# Altium footprint library CompPas.PcbLib: 15 footprints
Each footprint in its own frame and in the unit in brackets; x right, y up, seen from the top. Pads: shape width x height; smd on the part's side, far side on the other; paste and mask are expansions set on the pad; w line width, h text height; cw(c..) or ccw(c..) is an arc to the next point about the centre after c.
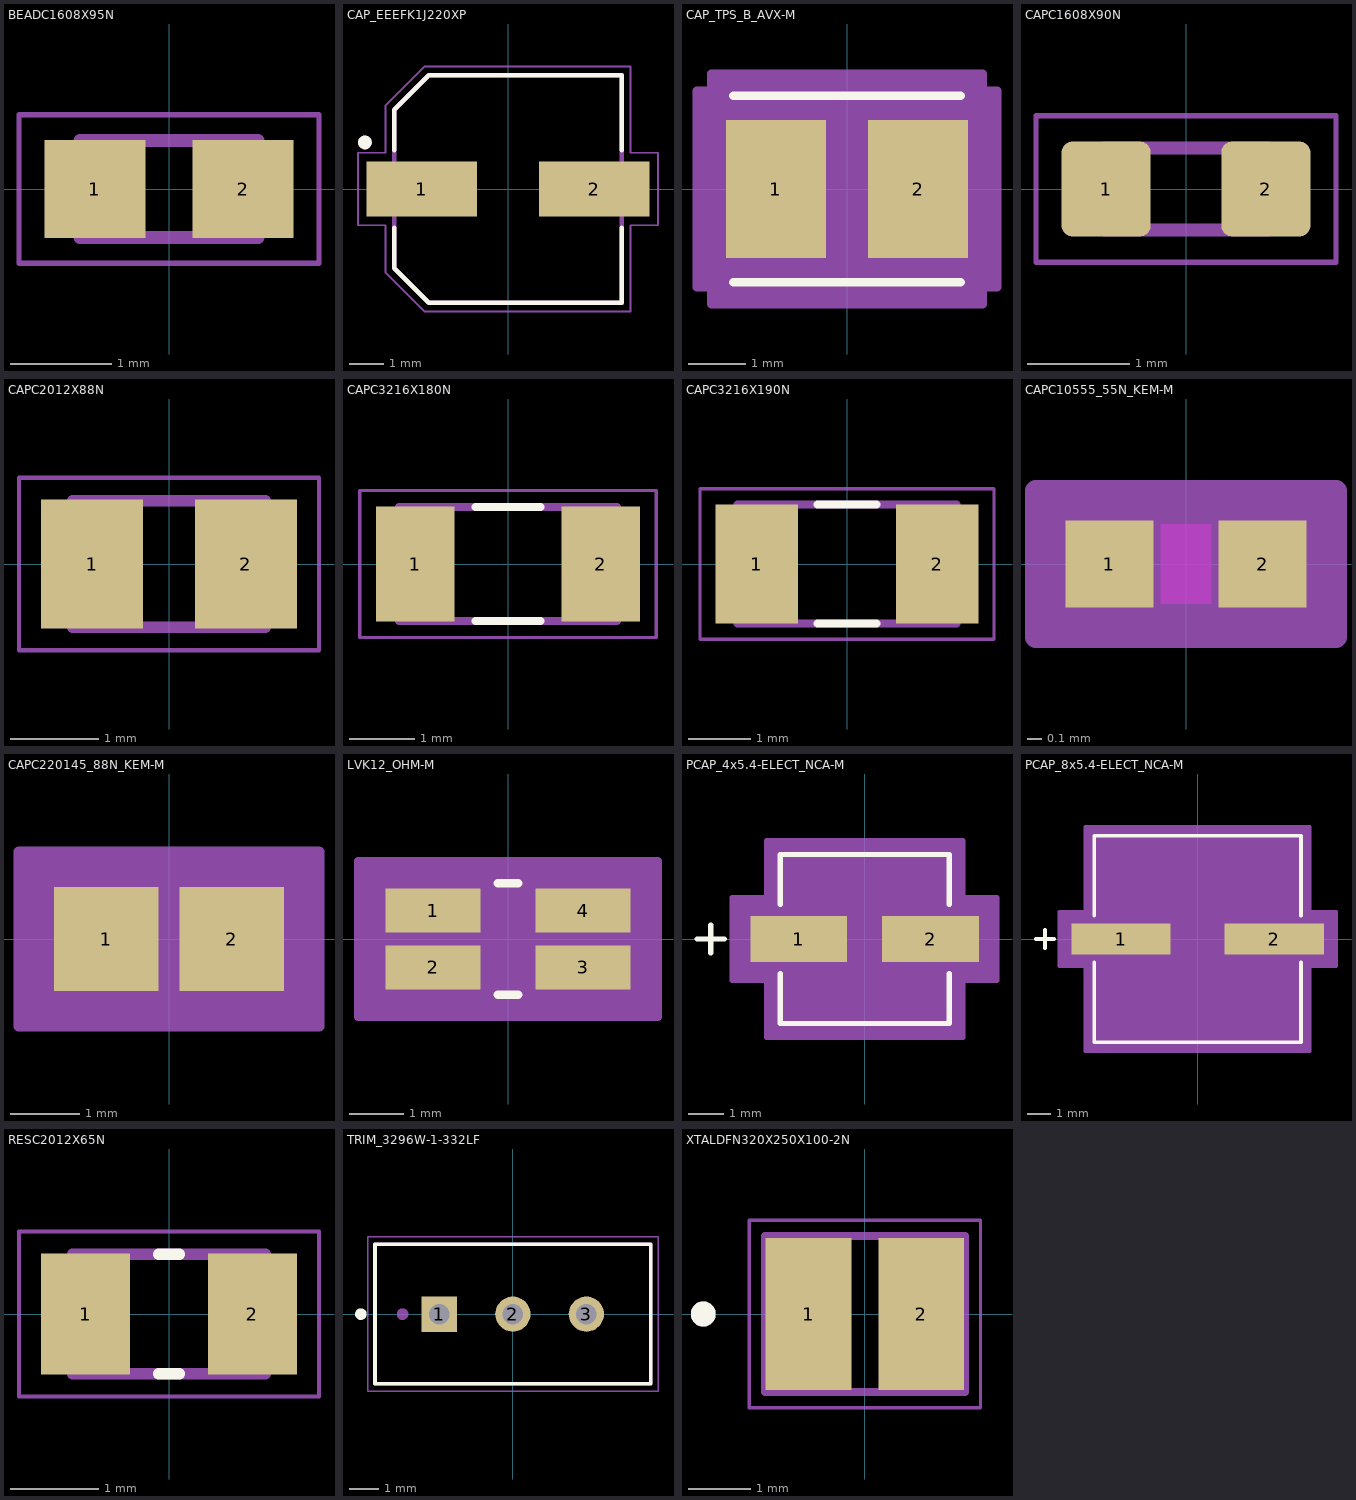
[diagram p0: the footprints below, top view; thin cyan lines are the x and y axes]

## BEADC1608X95N [mm]
pads (2):
  rect 1x0.97 smd: 1(-0.735,0) 2(0.735,0)
Mechanical 13:
  lines w0.127: -0.88,-0.48 -0.88,0.48 0.88,0.48 0.88,-0.48 -0.88,-0.48
Mechanical 15:
  lines w0.05: -1.485,-0.735 -1.485,0.735 1.485,0.735 1.485,-0.735 -1.485,-0.735
3D body "step_temp.STEP": height 0.95, standoff 0, extent -0.8,-0.4 0.8,0.4

## CAP_EEEFK1J220XP [mm]
height 7.7
pads (2):
  rect 3.2x1.6 smd: 1(-2.5,0) 2(2.5,0)
Top Overlay:
  circle w0.2: c-4.15,1.35 r0.1
  lines w0.127: -3.3,-1.12 -3.3,-2.3 -2.3,-3.3 3.3,-3.3 3.3,-1.12 ; -3.3,1.12 -3.3,2.3 -2.3,3.3 3.3,3.3 3.3,1.12
Mechanical 13:
  circle w0.2: c-4.15,1.35 r0.1
  lines w0.127: -3.3,-2.3 -2.3,-3.3 3.3,-3.3 3.3,3.3 -2.3,3.3 -3.3,2.3 -3.3,-2.3
Mechanical 15:
  lines w0.05: -4.35,-1.05 -4.35,1.05 -3.55,1.05 -3.55,2.425 -2.425,3.55 3.55,3.55 3.55,1.05 4.35,1.05 4.35,-1.05 3.55,-1.05 3.55,-3.55 -2.425,-3.55 -3.55,-2.425 -3.55,-1.05 -4.35,-1.05
3D body "step_temp.STEP": height 7.7, standoff 0, extent -3.65,-3.3 3.65,3.3

## CAP_TPS_B_AVX-M [mil]
pads (2):
  rect 68.44x95 smd paste+0 mask+0: 1(-48.78,0) 2(48.78,0)
Top Overlay:
  lines w6: -78,-64 78,-64 ; -78,64 78,64
Mechanical 13:
  lines w1: -73,-59 73,-59 73,59 -73,59 -73,-59
Mechanical 15:
  region: -93,-67.5 -103,-67.5 -103,67.5 -93,67.5 -93,79 93,79 93,67.5 103,67.5 103,-67.5 93,-67.5 93,-79 -93,-79
  lines w6: -103,-67.5 -103,67.5 -93,67.5 -93,79 93,79 93,67.5 103,67.5 103,-67.5 93,-67.5 93,-79 -93,-79 -93,-67.5 -103,-67.5
3D body "CAP_TPS_B_AVX.step": height 82.99, standoff 0, extent -72.99,-59.02 72.99,59.02

## CAPC1608X90N [mm]
pads (2):
  rrect25% 0.87x0.93 smd paste+0 mask+0.102: 1(-0.78,0) 2(0.78,0)
Mechanical 13:
  lines w0.127: -0.8,-0.4 -0.8,0.4 0.8,0.4 0.8,-0.4 -0.8,-0.4
Mechanical 15:
  lines w0.05: -1.465,-0.715 -1.465,0.715 1.465,0.715 1.465,-0.715 -1.465,-0.715
3D body "CL10C180JC8NNNC.STEP": height 0.78, standoff -0.02, extent -0.8,-0.425 0.8,0.475

## CAPC2012X88N [mm]
pads (2):
  rect 1.16x1.47 smd: 1(-0.875,0) 2(0.875,0)
Mechanical 13:
  lines w0.127: -1.1,-0.72 1.1,-0.72 1.1,0.72 -1.1,0.72 -1.1,-0.72
Mechanical 15:
  lines w0.05: -1.708,-0.983 1.708,-0.983 1.708,0.983 -1.708,0.983 -1.708,-0.983
3D body "step_temp.STEP": height 0.88, standoff 0, extent -1,-0.625 1,0.625

## CAPC3216X180N [mm]
pads (2):
  rect 1.21x1.77 smd paste+0 mask+0.102: 1(-1.428,0) 2(1.428,0)
Top Overlay:
  lines w0.127: -0.5,-0.88 0.5,-0.88 ; -0.5,0.88 0.5,0.88
Mechanical 13:
  lines w0.127: -1.68,-0.88 1.68,-0.88 1.68,0.88 -1.68,0.88 -1.68,-0.88
Mechanical 15:
  lines w0.05: -2.285,-1.135 2.285,-1.135 2.285,1.135 -2.285,1.135 -2.285,-1.135
3D body "step_temp.STEP": height 1.25, standoff 0, extent -1.6,-0.8 1.6,0.8

## CAPC3216X190N [mm]
pads (2):
  rect 1.32x1.91 smd: 1(-1.446,0) 2(1.446,0)
Top Overlay:
  lines w0.127: -0.47,-0.95 0.47,-0.95 ; -0.47,0.95 0.47,0.95
Mechanical 13:
  lines w0.127: -1.75,-0.95 1.75,-0.95 1.75,0.95 -1.75,0.95 -1.75,-0.95
Mechanical 15:
  lines w0.05: -2.355,-1.205 2.355,-1.205 2.355,1.205 -2.355,1.205 -2.355,-1.205
3D body "step_temp.STEP": height 1.9, standoff 0, extent -1.6,-0.8 1.6,0.8

## CAPC10555_55N_KEM-M [mil]
pads (2):
  rect 23.81x23.65 smd paste+0 mask+0: 1(-20.76,0) 2(20.76,0)
Top Layer keep-out:
  region: -6.86,-8.83 -6.86,8.83 6.86,8.83 6.86,-8.83
Keep-Out Layer:
  region: -6.86,-10.83 -6.86,10.83 6.86,10.83 6.86,-10.83
Mechanical 13:
  lines w1: -20.67,-10.83 -20.67,10.83 ; -20.67,-10.83 20.67,-10.83 ; -20.67,-10.83 -10.83,-10.83 -10.83,10.83 -20.67,10.83 ; -20.67,-10.83 -20.67,10.83 ; -20.67,10.83 20.67,10.83 ; 20.67,-10.83 20.67,10.83 ; 20.67,-10.83 20.67,10.83 ; 20.67,-10.83 10.83,-10.83 10.83,10.83 20.67,10.83
Mechanical 15:
  region: 40.67,-19.83 -40.67,-19.83 -40.67,19.83 40.67,19.83
  lines w6: -40.67,-19.83 40.67,-19.83 40.67,19.83 -40.67,19.83 -40.67,-19.83
3D body "CAPC10555_55N_KEM.step": height 21.65, standoff 0, extent -20.67,-10.83 20.67,10.83

## CAPC220145_88N_KEM-M [mil]
pads (2):
  rect 59.4x59.09 smd paste+0 mask+0: 1(-35.61,0) 2(35.61,0)
Mechanical 13:
  lines w1: -43.31,-28.54 -43.31,28.54 ; -43.31,-28.54 -13.78,-28.54 -13.78,28.54 -43.31,28.54 ; -43.31,-28.54 43.31,-28.54 ; -43.31,-28.54 -43.31,28.54 ; -43.31,28.54 43.31,28.54 ; 43.31,-28.54 13.78,-28.54 13.78,28.54 43.31,28.54 ; 43.31,-28.54 43.31,28.54 ; 43.31,-28.54 43.31,28.54
Mechanical 15:
  region: 85.31,-49.54 -85.31,-49.54 -85.31,49.54 85.31,49.54
  lines w6: -85.31,-49.54 -85.31,49.54 85.31,49.54 85.31,-49.54 -85.31,-49.54
3D body "CAPC220145_88N_KEM.step": height 34.65, standoff 0, extent -43.31,-28.54 43.31,28.54

## LVK12_OHM-M [mil]
pads (4):
  rect 69x32 smd paste+0 mask+0: 1(-54.5,20.67) 2(-54.5,-20.67) 3(54.5,-20.67) 4(54.5,20.67)
Top Overlay:
  lines w6: -7.47,-40.5 7.47,-40.5 ; -7.47,40.5 7.47,40.5
Mechanical 13:
  lines w1: -67,-35.5 67,-35.5 67,35.5 -67,35.5 -67,-35.5 ; -67,-15 -67,15 -20,15 -20,-15 -67,-15 ; 20,-15 20,15 67,15 67,-15 20,-15
Mechanical 15:
  region: 109,-56.67 -109,-56.67 -109,56.67 109,56.67
  lines w6: -109,-56.67 -109,56.67 109,56.67 109,-56.67 -109,-56.67
3D body "LVK12_OHM.step": height 25.98, standoff 0, extent -67.01,-36.65 67.01,36.65

## PCAP_4x5.4-ELECT_NCA-M [mil]
pads (2):
  rect 107x51 smd paste+0 mask+0: 1(-73,0) 2(73,0)
Top Overlay:
  lines w6: -185.5,0 -155.5,0 ; -170.5,-15 -170.5,15 ; -93.5,-38.6 -93.5,-93.5 93.5,-93.5 93.5,-38.6 ; -93.5,38.6 -93.5,93.5 93.5,93.5 93.5,38.6
Mechanical 13:
  lines w1: -185.5,0 -155.5,0 ; -170.5,-15 -170.5,15 ; -88.5,-44.25 -44.25,-88.5 ; -88.5,44.25 -44.25,88.5 ; -88.5,-88.5 88.5,-88.5 88.5,88.5 -88.5,88.5 -88.5,-88.5
Mechanical 15:
  region: -108.5,-45.5 -146.5,-45.5 -146.5,45.5 -108.5,45.5 -108.5,108.5 108.5,108.5 108.5,45.5 146.5,45.5 146.5,-45.5 108.5,-45.5 108.5,-108.5 -108.5,-108.5
  lines w6: -146.5,-45.5 -146.5,45.5 -108.5,45.5 -108.5,108.5 108.5,108.5 108.5,45.5 146.5,45.5 146.5,-45.5 108.5,-45.5 108.5,-108.5 -108.5,-108.5 -108.5,-45.5 -146.5,-45.5
3D body "PCAP_4x5_4-ELECT_NCA.step": height 219.09, standoff 0, extent -100.47,-88.5 96.54,88.5

## PCAP_8x5.4-ELECT_NCA-M [mil]
pads (2):
  rect 166x51 smd paste+0 mask+0: 1(-128,0) 2(128,0)
Top Overlay:
  lines w6: -270,0 -240,0 ; -255,-15 -255,15 ; -172.5,-38.6 -172.5,-172.5 172.5,-172.5 172.5,-38.6 ; -172.5,38.6 -172.5,172.5 172.5,172.5 172.5,38.6
Mechanical 13:
  lines w1: -270,0 -240,0 ; -255,-15 -255,15 ; -167.5,-83.75 -83.75,-167.5 ; -167.5,83.75 -83.75,167.5 ; -167.5,-167.5 167.5,-167.5 167.5,167.5 -167.5,167.5 -167.5,-167.5
Mechanical 15:
  region: -187.5,-45.5 -231,-45.5 -231,45.5 -187.5,45.5 -187.5,187.5 187.5,187.5 187.5,45.5 231,45.5 231,-45.5 187.5,-45.5 187.5,-187.5 -187.5,-187.5
  lines w6: -231,-45.5 -231,45.5 -187.5,45.5 -187.5,187.5 187.5,187.5 187.5,45.5 231,45.5 231,-45.5 187.5,-45.5 187.5,-187.5 -187.5,-187.5 -187.5,-45.5 -231,-45.5
3D body "PCAP_8x5_4-ELECT_NCA.step": height 219.09, standoff 0, extent -186.93,-168.46 179.06,166.5

## RESC2012X65N [mm]
pads (2):
  rect 1.01x1.38 smd: 1(-0.95,0) 2(0.95,0)
Top Overlay:
  lines w0.127: -0.12,-0.68 0.12,-0.68 ; -0.12,0.68 0.12,0.68
Mechanical 13:
  lines w0.127: -1.1,-0.68 -1.1,0.68 1.1,0.68 1.1,-0.68 -1.1,-0.68
Mechanical 15:
  lines w0.05: -1.708,-0.94 -1.708,0.94 1.708,0.94 1.708,-0.94 -1.708,-0.94
3D body "RMCF0805_stp.stp": height 0.49, standoff -0.01, extent -0.875,-0.625 1.125,0.625

## TRIM_3296W-1-332LF [mm]
pads (3):
  rect 1.218x1.218 / inner round 1.218 / far side rect 1.218x1.218 hole 0.71: 1(-2.54,0)
  round 1.218 hole 0.71: 2(0,0) 3(2.54,0)
Top Overlay:
  circle w0.2: c-5.25,0 r0.1
  lines w0.127: -4.765,-2.41 4.765,-2.41 4.765,2.42 -4.765,2.42 -4.765,-2.41
Mechanical 13:
  circle w0.2: c-3.81,0 r0.1
  lines w0.127: -4.765,-2.41 -4.765,2.42 4.765,2.42 4.765,-2.41 -4.765,-2.41
Mechanical 15:
  lines w0.05: -5.015,-2.66 -5.015,2.67 5.015,2.67 5.015,-2.66 -5.015,-2.66
3D body "step_temp.STEP": height 11.55, standoff -7.72, extent -4.765,-2.41 4.765,2.42

## XTALDFN320X250X100-2N [mm]
height 1
pads (2):
  rect 1.37x2.43 smd: 1(-0.9,0) 2(0.9,0)
Top Overlay:
  circle w0.2: c-2.585,0 r0.1
Mechanical 13:
  circle w0.2: c-2.585,0 r0.1
  lines w0.127: -1.6,-1.25 -1.6,1.25 1.6,1.25 1.6,-1.25 -1.6,-1.25
Mechanical 15:
  lines w0.05: -1.85,-1.5 -1.85,1.5 1.85,1.5 1.85,-1.5 -1.85,-1.5
3D body "step_temp.STEP": height 1, standoff 0, extent -1.6,-1.25 1.6,1.25